# Altium footprint library NFC_Access_Lib.PcbLib: 44 footprints (part 1 of 3)
Each footprint in its own frame and in the unit in brackets; x right, y up, seen from the top. Pads: shape width x height; smd on the part's side, far side on the other; paste and mask are expansions set on the pad; w line width, h text height; cw(c..) or ccw(c..) is an arc to the next point about the centre after c.
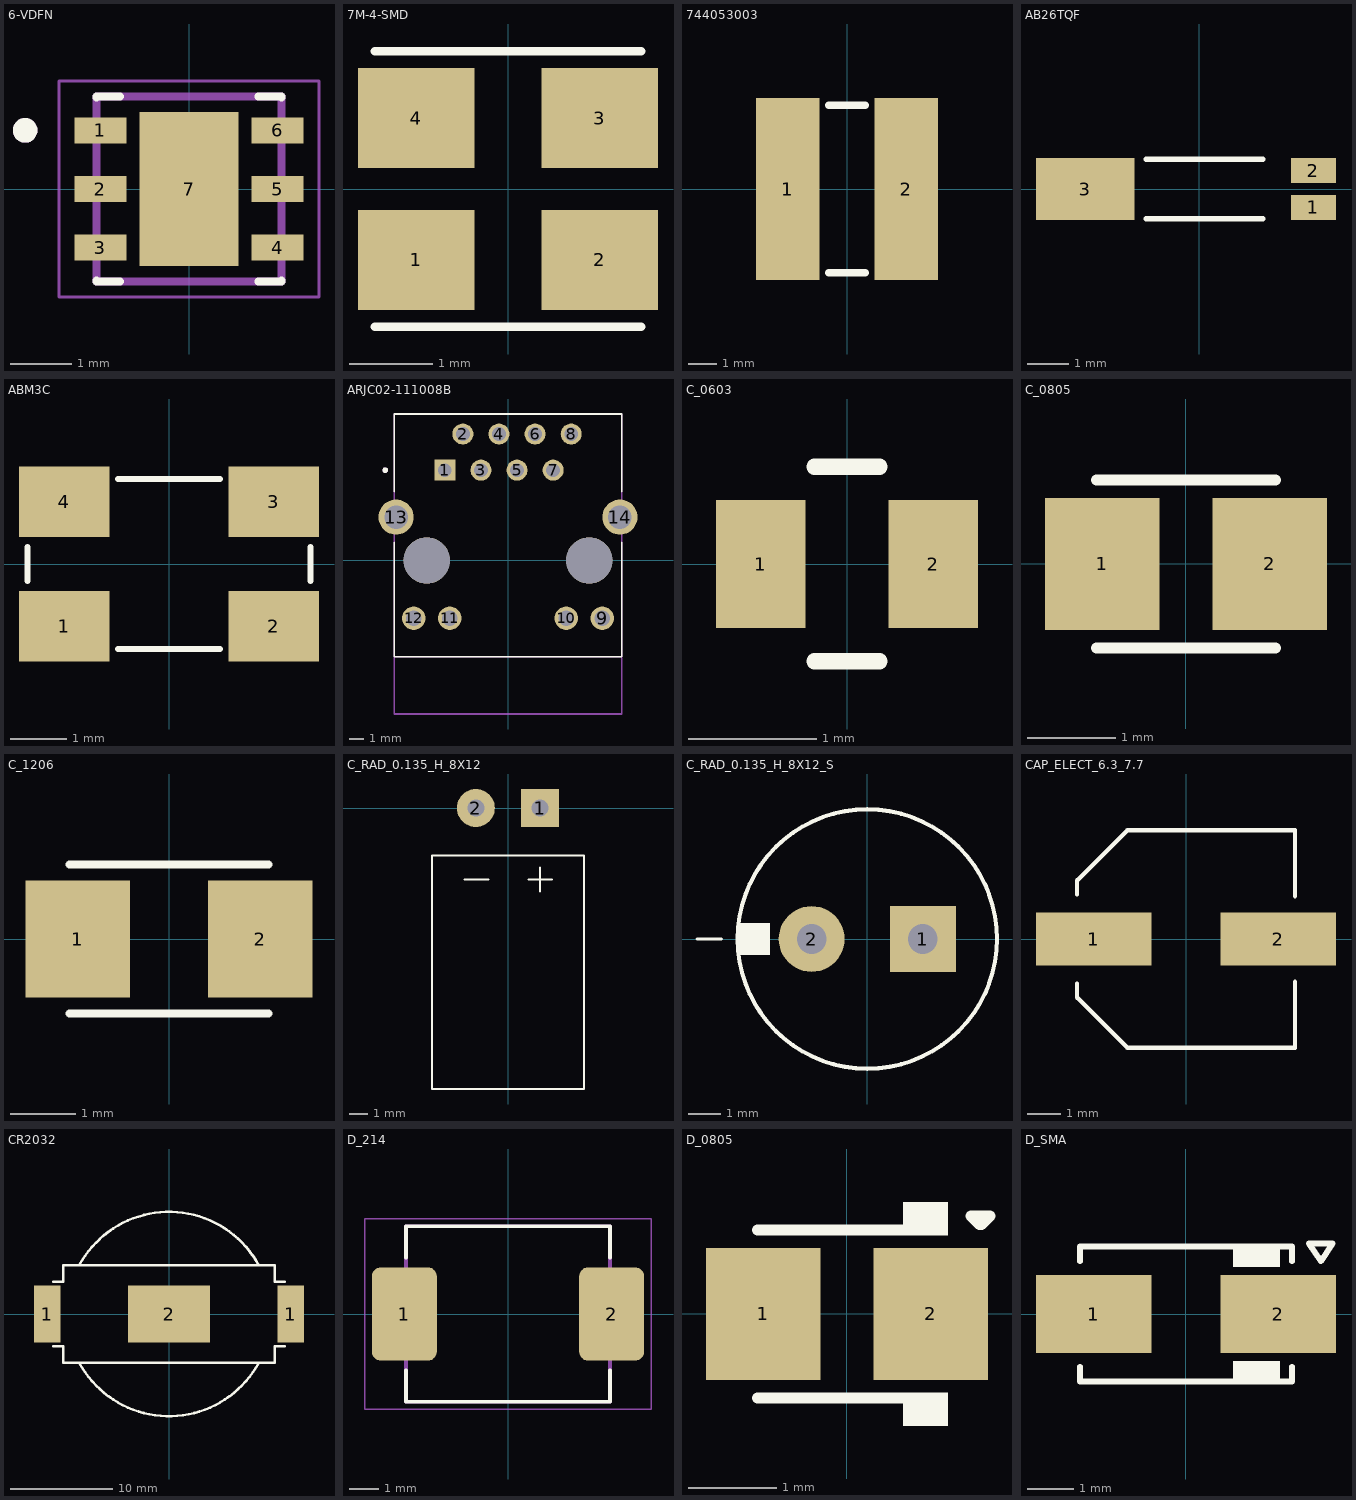
[diagram p0: the footprints below, top view; thin cyan lines are the x and y axes]

## 6-VDFN [mm]
pads (7):
  rect 0.84x0.42 smd: 1(-1.435,0.95) 2(-1.435,0) 3(-1.435,-0.95) 4(1.435,-0.95) 5(1.435,0) 6(1.435,0.95)
  rect 1.6x2.5 smd paste-2: 7(0,0)
Top Overlay:
  circle w0.2: c-2.655,0.95 r0.1
  lines w0.127: -1.5,-1.48 -1.5,-1.5 -1.12,-1.5 ; -1.5,1.48 -1.5,1.5 -1.12,1.5 ; 1.12,-1.5 1.5,-1.5 1.5,-1.48 ; 1.12,1.5 1.5,1.5 1.5,1.48
Top Paste:
  region: 0.506,-0.791 -0.506,-0.791 -0.506,0.791 0.506,0.791
Mechanical 13:
  circle w0.2: c-2.655,0.95 r0.1
  lines w0.127: -1.5,-1.5 1.5,-1.5 1.5,1.5 -1.5,1.5 -1.5,-1.5
Mechanical 15:
  lines w0.05: -2.105,-1.75 -2.105,1.75 2.105,1.75 2.105,-1.75 -2.105,-1.75
3D body "step_temp.STEP": height 0.54, standoff -0.46, extent -1.5,-1.5 1.5,1.5

## 7M-4-SMD [mm]
pads (4):
  rect 1.4x1.2 smd: 1(-1.1,-0.85) 2(1.1,-0.85) 3(1.1,0.85) 4(-1.1,0.85)
Top Overlay:
  lines w0.102: -1.6,-1.651 1.6,-1.651 ; -1.6,1.651 1.6,1.651

## 744053003 [mm]
pads (2):
  rect 2.2x6.3 smd: 1(-2.05,0) 2(2.05,0)
Top Overlay:
  lines w0.254: -0.635,-2.9 0.635,-2.9 ; -0.635,2.9 0.635,2.9

## AB26TQF [mm]
pads (3):
  rect 1.1x0.6 smd: 1(2.775,-0.45) 2(2.775,0.45)
  rect 2.4x1.5 smd: 3(-2.775,0)
Top Overlay:
  lines w0.127: -1.295,-0.725 1.549,-0.725 ; -1.295,0.725 1.549,0.725
3D body "AB26TRQ.STEP": height 1.53, standoff -0.12, extent -3.877,-0.675 2.827,0.775

## ABM3C [mm]
pads (4):
  rect 1.6x1.25 smd: 1(-1.85,-1.1) 2(1.85,-1.1) 3(1.85,1.1) 4(-1.85,1.1)
Top Overlay:
  lines w0.102: -2.5,-0.3 -2.5,0.3 ; -0.9,-1.5 0.9,-1.5 ; -0.9,1.5 0.9,1.5 ; 2.5,-0.3 2.5,0.3
3D body "ABM3C.STEP": height 1.3, standoff 0, extent -2.5,-1.6 2.5,1.6

## ARJC02-111008B [mm] "CONN JACK 1PORT 100 BASE-TX PCB"
pads (16):
  rect 1.478x1.478 hole 0.97: 1(-4.445,6.35)
  round 1.478 hole 0.97: 2(-3.175,8.89) 3(-1.905,6.35) 4(-0.635,8.89) 5(0.635,6.35) 6(1.905,8.89) 7(3.175,6.35) 8(4.445,8.89)
  round 1.65 hole 1.1: 9(6.63,-4.06) 10(4.09,-4.06) 11(-4.09,-4.06) 12(-6.63,-4.06)
  round 2.475 hole 1.65: 13(-7.875,3.05) 14(7.875,3.05)
  round 3.26 hole 3.26 unplated: ""(-5.715,0) ""(5.715,0)
Top Overlay:
  circle w0.2: c-8.636,6.35 r0.1
  lines w0.127: -8,1.27 -8,-6.78 8,-6.78 8,1.27 ; -8,4.826 -8,10.3 8,10.3 8,4.826
Mechanical 4:
  lines w0.127: -8,-6.78 -8,-10.8 8,-10.8 8,-6.858
Mechanical 13:
  circle w0.2: c-8.636,6.35 r0.1
  lines w0.127: -8,-6.78 -8,-2.718 -8,6.428 -8,10.3 8,10.3 8,-6.78 -8,-6.78

## C_0603 [mm] "Chip Capacitor, 2-Leads, Body 2.00x1.25mm"
height 1.1
pads (2):
  rect 0.7x1 smd: 1(-0.675,0) 2(0.675,0)
Top Overlay:
  lines w0.127: -0.254,-0.762 0.254,-0.762 ; -0.254,0.762 0.254,0.762

## C_0805 [mm] "Chip Capacitor, 2-Leads, Body 2.00x1.25mm"
height 1.1
pads (2):
  rect 1.3x1.5 smd: 1(-0.95,0) 2(0.95,0)
Top Overlay:
  lines w0.127: -1.016,-0.953 1.016,-0.953 ; -1.016,0.953 1.016,0.953
3D body "SW3dPS-0805 SMD Capacitor.STEP": height 0.78, standoff 0, extent -1,-0.625 1,0.625

## C_1206 [mm]
pads (2):
  rect 1.6x1.8 smd: 1(-1.4,0) 2(1.4,0)
Top Overlay:
  lines w0.127: -1.524,-1.143 1.524,-1.143 ; -1.524,1.143 1.524,1.143
3D body "SW3dPS-1206 SMD Capacitor.STEP": height 1, standoff 0, extent -1.6,-0.8 1.6,0.8

## C_RAD_0.135_H_8X12 [mil]
pads (2):
  rect 80x80 hole 36: 1(67.5,0)
  round 80 hole 36: 2(-67.5,0)
Top Overlay:
  lines w4: -91.12,-150 -41.12,-150 ; 42.5,-150 92.5,-150 ; 67.5,-175 67.5,-125 ; -160,-590.12 160,-590.12 160,-100 -160,-100 -160,-590.12
3D body "User Library-Cap electrolitic radial 8x12.STEP": height 334.58, standoff 19.69, extent -157.42,-590.55 157.43,-59.06

## C_RAD_0.135_H_8X12_S [mil]
pads (2):
  rect 80x80 hole 36: 1(67.5,0)
  round 80 hole 36: 2(-67.5,0)
Top Overlay:
  circle w5: c0,0 r157.48
  rectangle: -157.48,-19.68 -118.11,19.69
  lines w4: -206.69,0 -177.17,0
3D body "User Library-Cap-EL(8x12-3_5)T.STEP": height 484.33, standoff -129.92, extent -157.56,-157.41 157.48,157.4

## CAP_ELECT_6.3_7.7 [mm]
pads (2):
  rect 3.5x1.6 smd: 1(-2.8,0) 2(2.8,0)
Top Overlay:
  lines w0.127: -3.302,-1.78 -3.302,-1.346 ; -3.302,1.346 -3.302,1.78 ; -3.3,-1.78 -1.78,-3.3 3.3,-3.3 ; -3.3,1.78 -1.78,3.3 3.3,3.3 ; 3.302,-3.302 3.302,-1.295 ; 3.302,1.295 3.302,3.302

## CR2032 [mm]
pads (3):
  rect 2.6x5.56 smd: 1(-11.905,0) 1(11.905,0)
  rect 8x5.56 smd: 2(0,0)
Top Overlay:
  lines w0.254: -11.303,-3.175 -10.414,-3.175 -10.35,-3.175 -10.35,-4.765 10.35,-4.765 10.35,-3.175 10.414,-3.175 11.303,-3.175 ; -11.303,3.175 -10.414,3.175 -10.35,3.175 -10.35,4.765 10.35,4.765 10.35,3.175 10.414,3.175 11.303,3.175 ; -8.792,-4.765 ccw(c0,0) 8.792,-4.765 ; -8.792,4.765 cw(c0,0) 8.77,4.805

## D_214 [mm]
pads (2):
  rrect25% 2.18x3.12 smd: 1(-3.485,0) 2(3.485,0)
Top Overlay:
  lines w0.127: -3.427,-1.9 -3.427,-2.953 3.427,-2.953 3.427,-1.9 ; -3.427,1.9 -3.427,2.953 3.427,2.953 3.427,1.9
Mechanical 13:
  lines w0.127: -3.427,-2.953 3.427,-2.953 3.427,2.953 -3.427,2.953 -3.427,-2.953
Mechanical 15:
  lines w0.05: -4.825,-3.203 4.825,-3.203 4.825,3.203 -4.825,3.203 -4.825,-3.203
3D body "step_temp.STEP": height 1.21, standoff -1.41, extent -3.969,-2.953 3.969,2.953

## D_0805 [mm]
pads (2):
  rect 1.3x1.5 smd: 1(-0.95,0) 2(0.95,0)
Top Overlay:
  rectangle: 0.635,0.889 1.143,1.27
  rectangle: 0.635,-1.27 1.143,-0.889
  lines w0.127: -1.016,-0.953 1.016,-0.953 ; -1.016,0.953 1.016,0.953 ; 1.405,1.111 1.5,1.016 1.524,1.016 1.619,1.111 1.405,1.111
3D body "User Library-User Library-led_0805 YEL.STEP": height 1.12, standoff -0.02, extent -1.01,-0.663 1.01,0.625

## D_SMA [mm]
height 2.4
pads (2):
  rect 2.5x1.7 smd: 1(-2,0) 2(2,0)
Top Overlay:
  rectangle: 1.016,-1.524 2.032,-1.016
  rectangle: 1.016,1.016 2.032,1.524
  lines w0.127: -2.3,-1.143 -2.3,-1.46 2.3,-1.46 2.3,-1.143 ; -2.3,1.143 -2.3,1.46 2.3,1.46 2.3,1.143 ; 2.667,1.524 2.921,1.143 3.175,1.524 2.667,1.524
3D body "User Library-DO-214AC(SMA).STEP": height 2.39, standoff 0.11, extent -2.743,-1.397 2.743,1.397